# EAGLE library part ET312 (library SparkFunEagle-6-6-07)
ET312 GPS Receiver Proven layout and schematic for SiRF III ET312 GPS receiver. Spark Fun Electronics SKU : GPS-08268
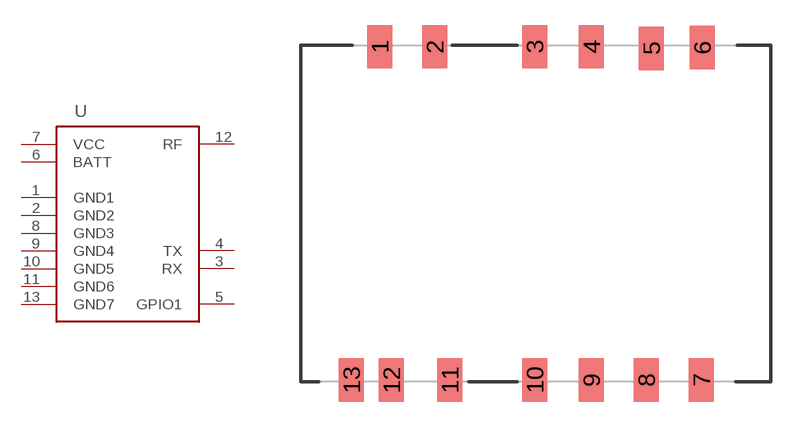
[diagram p80: symbol with the pads of ET312; footprint ET312]

Designator prefix -

## ET312SMD  [ET312]
1  GND1  pwr
2  GND2  pwr
3  RX  in
4  TX  out
5  GPIO1
6  BATT  pwr
7  VCC  pwr
8  GND3  pwr
9  GND4  pwr
10  GND5  pwr
11  GND6  pwr
12  RF
13  GND7  pwr

## Footprint ET312 (pad centres in mm)
smd 1.5 x 2.6: 1 -9.35,10; 2 -6.05,10; 3 -0.05,10; 4 3.35,10; 5 6.95,9.9; 6 10,9.95; 7 9.95,-10; 8 6.65,-10; 9 3.35,-10; 10 -0.05,-10; 11 -5.15,-10; 12 -8.65,-10; 13 -11.05,-10